# EAGLE library part TDA7381 (library robo_ag)
Audioverstaerker Reichelt:TDA 7381 4x25W 14,4V
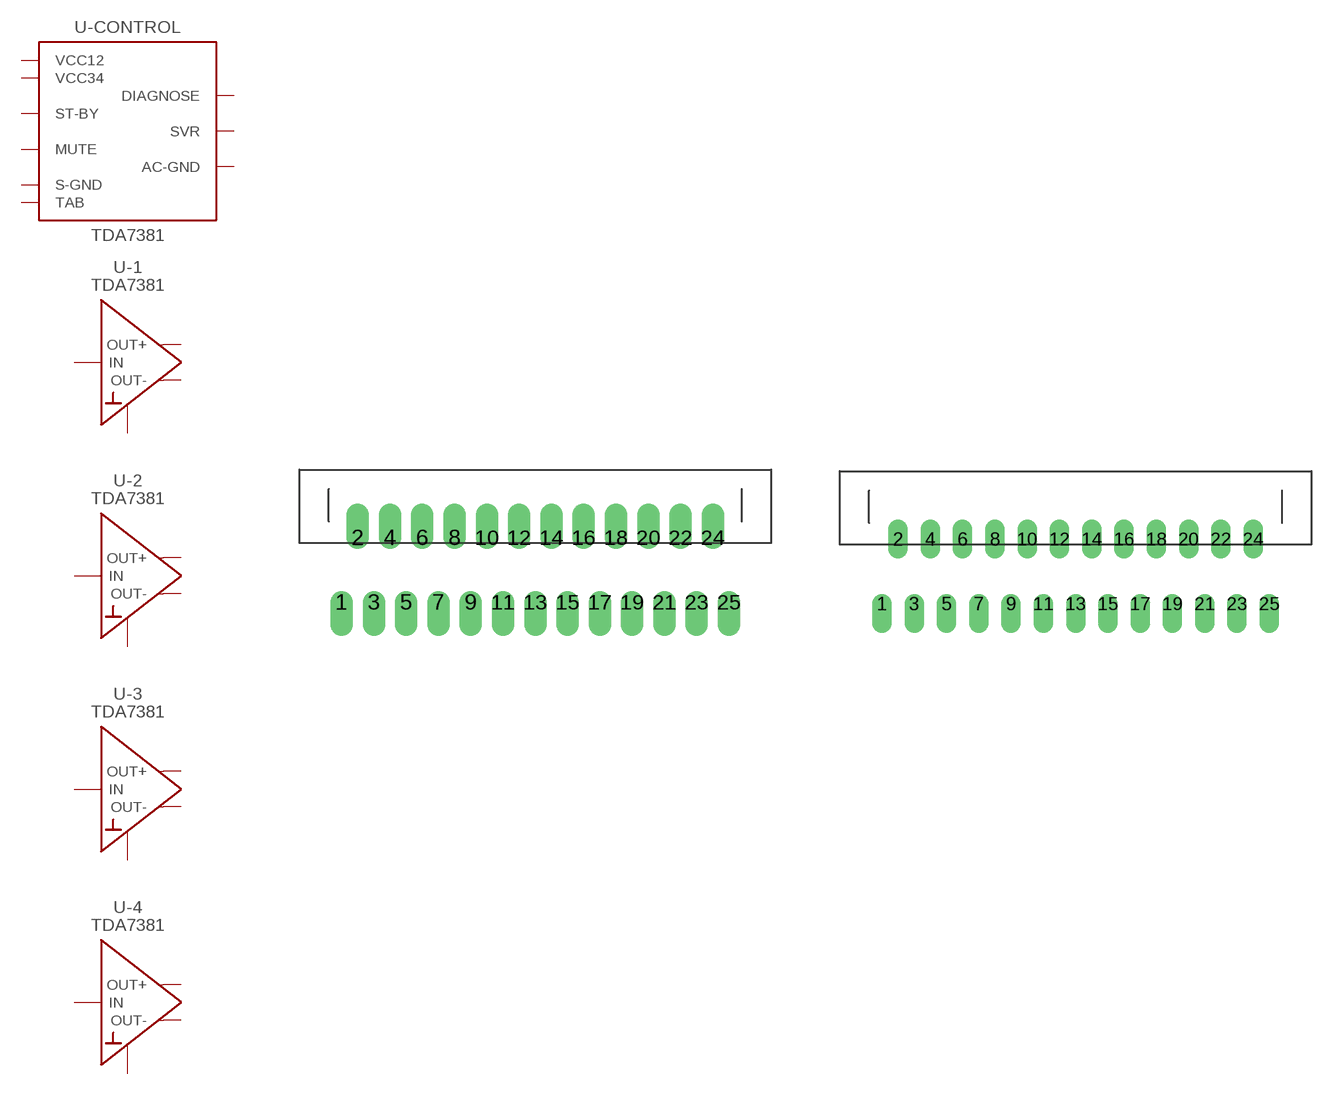
[diagram p16: symbol with the pads of IC_FLEXIWATT25; footprints IC_FLEXIWATT25, IC_FLEXIWATT25_TINY]

Designator prefix -; gates -CONTROL=AUDIO_CONTROL -1=AUDIO_DRIVER -2=AUDIO_DRIVER -3=AUDIO_DRIVER -4=AUDIO_DRIVER

## TDA7381  [IC_FLEXIWATT25]
1  -CONTROL:TAB  in
2  -2:GND  pwr
3  -2:OUT-  out
4  -CONTROL:ST-BY  in
5  -2:OUT+  out
6  -CONTROL:VCC12  in
7  -1:OUT-  out
8  -1:GND  pwr
9  -1:OUT+  out
10  -CONTROL:SVR  pwr
11  -1:IN  in
12  -2:IN  in
13  -CONTROL:S-GND  in
14  -4:IN  in
15  -3:IN  in
16  -CONTROL:AC-GND  pwr
17  -3:OUT+  out
18  -3:GND  pwr
19  -3:OUT-  out
20  -CONTROL:VCC34  in
21  -4:OUT+  out
22  -CONTROL:MUTE  in
23  -4:OUT-  out
24  -4:GND  pwr
25  -CONTROL:DIAGNOSE  oc

## TDA7381_TINY  [IC_FLEXIWATT25_TINY]
Pads as for IC_FLEXIWATT25

## TDA7381_SPECIAL  [IC_FLEXIWATT25_SPECIAL]
Pads as for IC_FLEXIWATT25

## Footprint IC_FLEXIWATT25 (pad centres in mm)
drill 0.9 offset: 1 -12,-4; 2 -11,0; 3 -10,-4; 4 -9,0; 5 -8,-4; 6 -7,0; 7 -6,-4; 8 -5,0; 9 -4,-4; 10 -3,0; 11 -2,-4; 12 -1,0; 13 0,-4; 14 1,0; 15 2,-4; 16 3,0; 17 4,-4; 18 5,0; 19 6,-4; 20 7,0; 21 8,-4; 22 9,0; 23 10,-4; 24 11,0; 25 12,-4

## Footprint IC_FLEXIWATT25_TINY (pad centres in mm)
drill 0.7 pad 1.1 offset: 1 -12,-4; 3 -10,-4; 5 -8,-4; 7 -6,-4; 9 -4,-4; 11 -2,-4; 13 0,-4; 15 2,-4; 17 4,-4; 19 6,-4; 21 8,-4; 23 10,-4; 25 12,-4
drill 0.7 pad 1.1 long: 2 -11,0; 4 -9,0; 6 -7,0; 8 -5,0; 10 -3,0; 12 -1,0; 14 1,0; 16 3,0; 18 5,0; 20 7,0; 22 9,0; 24 11,0

## Footprint IC_FLEXIWATT25_SPECIAL (pad centres in mm)
drill 0.7 pad 1.1 offset: 1 -12,-4; 2 -11,0; 3 -10,-4; 5 -8,-4; 7 -6,-4; 8 -5,0; 9 -4,-4; 11 -2,-4; 13 0,-4; 15 2,-4; 17 4,-4; 18 5,0; 19 6,-4; 21 8,-4; 23 10,-4; 24 11,0; 25 12,-4
drill 0.7 pad 1.1 long: 4 -9,0; 6 -7,0; 10 -3,0; 16 3,0; 20 7,0; 22 9,0
drill 0.7 pad 1.3 octagon: 12 -1,0; 14 1,0